# Altium integrated library Maxim Supervisors, Voltage Monitors and Sequencers.IntLib: 631 symbols (part 6 of 13)
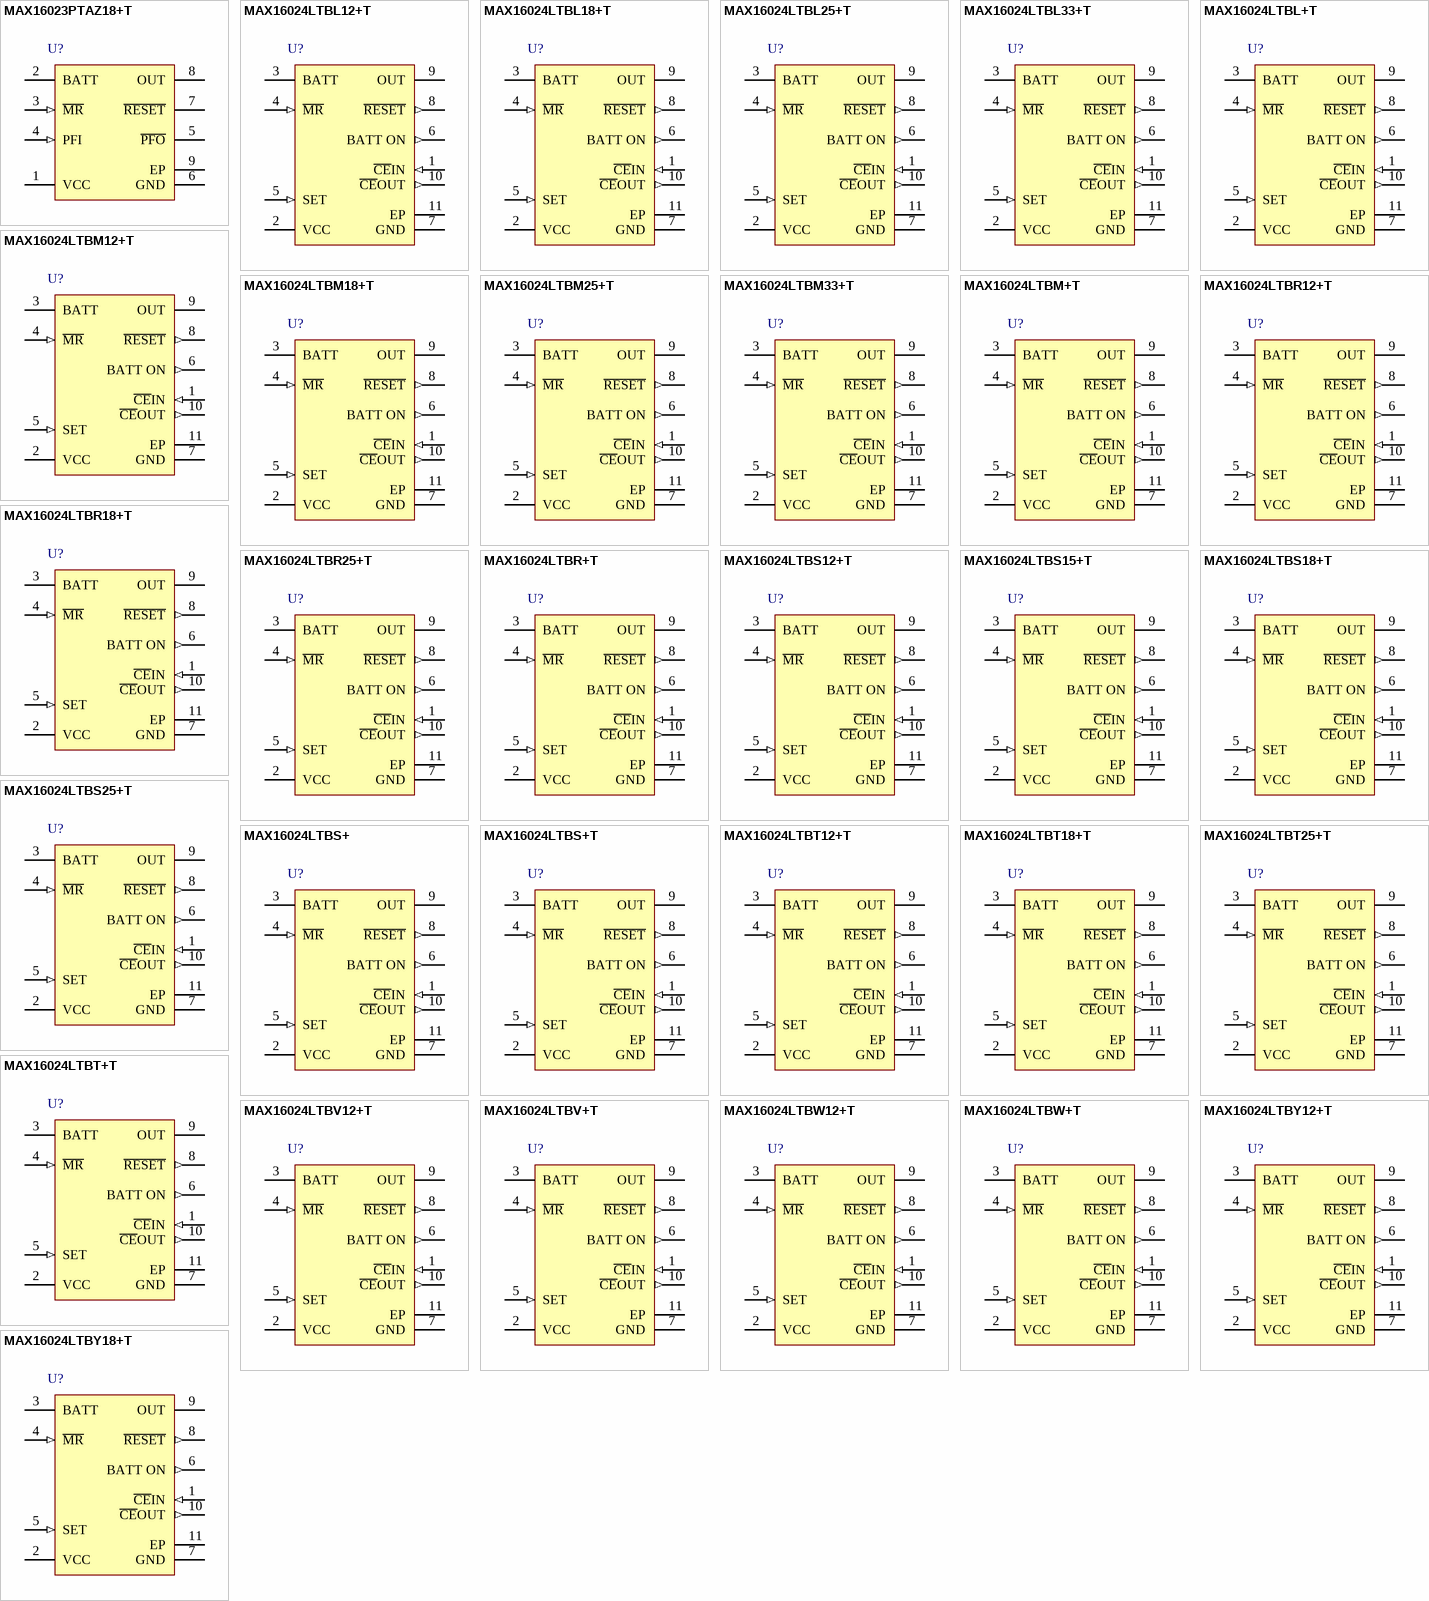
[diagram p22: symbols MAX16023PTAZ18+T to MAX16024LTBY18+T]

## MAX16024LTBS+
designator U?
Battery-Backup Circuit with Regulated Output Voltage, 1.2V; 1.8V, 2.5V, 3.0V, 3.3V output, 10-Pin TDFN-EP, -40°C to +85°C, Pb-Free; DatasheetVersion: Rev 0, Aug-2008; PackageVersion: revJ, 2009; PackageReference: T1033+1; PackageDescription: 10-Pin Plastic Very Very Thin Dual Flatpack No Leads, Exposed Pad, 3 x 3 x 0.8 mm Body, TDFN-EP, Pb-Free; Code_JEDEC: MO-229-WEED-3; ComponentLink1Description: Manufacturer URL; ComponentLink1URL: http://www.maxim-ic.com; ComponentLink2Description: Datasheet; ComponentLink2URL: http://datasheets.maxim-ic.com/en/ds/MAX16023-MAX16024.pdf; ComponentLink3Description: Package Specification; ComponentLink3URL: http://pdfserv.maxim-ic.com/package_dwgs/21-0137.PDF
footprint T1033+1_V (SON, 10-Leads, Body 3x3mm, Pitch 0.5mm, Thermal Pad 2.35x1.58mm, Maxim Recommended)
pins: 1 ~{CE}IN (in), 2 VCC (power), 3 BATT (power), 4 ~{MR} (in), 5 SET (in), 6 BATT ON (out), 7 GND (power), 8 ~{RESET} (out), 9 OUT (power), 10 ~{CE}OUT (out), 11 EP (power)

## MAX16024LTBS+T
designator U?
Battery-Backup Circuit with Regulated Output Voltage, 1.2V; 1.8V, 2.5V, 3.0V, 3.3V output, 10-Pin TDFN-EP, -40°C to +85°C, Pb-Free, Tape and Reel; DatasheetVersion: Rev 0, Aug-2008; PackageVersion: revJ, 2009; PackageReference: T1033+1; PackageDescription: 10-Pin Plastic Very Very Thin Dual Flatpack No Leads, Exposed Pad, 3 x 3 x 0.8 mm Body, TDFN-EP, Pb-Free; Code_JEDEC: MO-229-WEED-3; ComponentLink1Description: Manufacturer URL; ComponentLink1URL: http://www.maxim-ic.com; ComponentLink2Description: Datasheet; ComponentLink2URL: http://datasheets.maxim-ic.com/en/ds/MAX16023-MAX16024.pdf; ComponentLink3Description: Package Specification; ComponentLink3URL: http://pdfserv.maxim-ic.com/package_dwgs/21-0137.PDF
footprint T1033+1_V (SON, 10-Leads, Body 3x3mm, Pitch 0.5mm, Thermal Pad 2.35x1.58mm, Maxim Recommended)
pins: 1 ~{CE}IN (in), 2 VCC (power), 3 BATT (power), 4 ~{MR} (in), 5 SET (in), 6 BATT ON (out), 7 GND (power), 8 ~{RESET} (out), 9 OUT (power), 10 ~{CE}OUT (out), 11 EP (power)

## MAX16024LTBT12+T
designator U?
Battery-Backup Circuit with Regulated Output Voltage, 1.2V; 1.8V, 2.5V, 3.0V, 3.3V output, 10-Pin TDFN-EP, -40°C to +85°C, Pb-Free, Tape and Reel; DatasheetVersion: Rev 0, Aug-2008; PackageVersion: revJ, 2009; PackageReference: T1033+1; PackageDescription: 10-Pin Plastic Very Very Thin Dual Flatpack No Leads, Exposed Pad, 3 x 3 x 0.8 mm Body, TDFN-EP, Pb-Free; Code_JEDEC: MO-229-WEED-3; ComponentLink1Description: Manufacturer URL; ComponentLink1URL: http://www.maxim-ic.com; ComponentLink2Description: Datasheet; ComponentLink2URL: http://datasheets.maxim-ic.com/en/ds/MAX16023-MAX16024.pdf; ComponentLink3Description: Package Specification; ComponentLink3URL: http://pdfserv.maxim-ic.com/package_dwgs/21-0137.PDF
footprint T1033+1_V (SON, 10-Leads, Body 3x3mm, Pitch 0.5mm, Thermal Pad 2.35x1.58mm, Maxim Recommended)
pins: 1 ~{CE}IN (in), 2 VCC (power), 3 BATT (power), 4 ~{MR} (in), 5 SET (in), 6 BATT ON (out), 7 GND (power), 8 ~{RESET} (out), 9 OUT (power), 10 ~{CE}OUT (out), 11 EP (power)

## MAX16024LTBT18+T
designator U?
Battery-Backup Circuit with Regulated Output Voltage, 1.2V; 1.8V, 2.5V, 3.0V, 3.3V output, 10-Pin TDFN-EP, -40°C to +85°C, Pb-Free, Tape and Reel; DatasheetVersion: Rev 0, Aug-2008; PackageVersion: revJ, 2009; PackageReference: T1033+1; PackageDescription: 10-Pin Plastic Very Very Thin Dual Flatpack No Leads, Exposed Pad, 3 x 3 x 0.8 mm Body, TDFN-EP, Pb-Free; Code_JEDEC: MO-229-WEED-3; ComponentLink1Description: Manufacturer URL; ComponentLink1URL: http://www.maxim-ic.com; ComponentLink2Description: Datasheet; ComponentLink2URL: http://datasheets.maxim-ic.com/en/ds/MAX16023-MAX16024.pdf; ComponentLink3Description: Package Specification; ComponentLink3URL: http://pdfserv.maxim-ic.com/package_dwgs/21-0137.PDF
footprint T1033+1_V (SON, 10-Leads, Body 3x3mm, Pitch 0.5mm, Thermal Pad 2.35x1.58mm, Maxim Recommended)
pins: 1 ~{CE}IN (in), 2 VCC (power), 3 BATT (power), 4 ~{MR} (in), 5 SET (in), 6 BATT ON (out), 7 GND (power), 8 ~{RESET} (out), 9 OUT (power), 10 ~{CE}OUT (out), 11 EP (power)

## MAX16024LTBT25+T
designator U?
Battery-Backup Circuit with Regulated Output Voltage, 1.2V; 1.8V, 2.5V, 3.0V, 3.3V output, 10-Pin TDFN-EP, -40°C to +85°C, Pb-Free, Tape and Reel; DatasheetVersion: Rev 0, Aug-2008; PackageVersion: revJ, 2009; PackageReference: T1033+1; PackageDescription: 10-Pin Plastic Very Very Thin Dual Flatpack No Leads, Exposed Pad, 3 x 3 x 0.8 mm Body, TDFN-EP, Pb-Free; Code_JEDEC: MO-229-WEED-3; ComponentLink1Description: Manufacturer URL; ComponentLink1URL: http://www.maxim-ic.com; ComponentLink2Description: Datasheet; ComponentLink2URL: http://datasheets.maxim-ic.com/en/ds/MAX16023-MAX16024.pdf; ComponentLink3Description: Package Specification; ComponentLink3URL: http://pdfserv.maxim-ic.com/package_dwgs/21-0137.PDF
footprint T1033+1_V (SON, 10-Leads, Body 3x3mm, Pitch 0.5mm, Thermal Pad 2.35x1.58mm, Maxim Recommended)
pins: 1 ~{CE}IN (in), 2 VCC (power), 3 BATT (power), 4 ~{MR} (in), 5 SET (in), 6 BATT ON (out), 7 GND (power), 8 ~{RESET} (out), 9 OUT (power), 10 ~{CE}OUT (out), 11 EP (power)

## MAX16024LTBT+T
designator U?
Battery-Backup Circuit with Regulated Output Voltage, 1.2V; 1.8V, 2.5V, 3.0V, 3.3V output, 10-Pin TDFN-EP, -40°C to +85°C, Pb-Free, Tape and Reel; DatasheetVersion: Rev 0, Aug-2008; PackageVersion: revJ, 2009; PackageReference: T1033+1; PackageDescription: 10-Pin Plastic Very Very Thin Dual Flatpack No Leads, Exposed Pad, 3 x 3 x 0.8 mm Body, TDFN-EP, Pb-Free; Code_JEDEC: MO-229-WEED-3; ComponentLink1Description: Manufacturer URL; ComponentLink1URL: http://www.maxim-ic.com; ComponentLink2Description: Datasheet; ComponentLink2URL: http://datasheets.maxim-ic.com/en/ds/MAX16023-MAX16024.pdf; ComponentLink3Description: Package Specification; ComponentLink3URL: http://pdfserv.maxim-ic.com/package_dwgs/21-0137.PDF
footprint T1033+1_V (SON, 10-Leads, Body 3x3mm, Pitch 0.5mm, Thermal Pad 2.35x1.58mm, Maxim Recommended)
pins: 1 ~{CE}IN (in), 2 VCC (power), 3 BATT (power), 4 ~{MR} (in), 5 SET (in), 6 BATT ON (out), 7 GND (power), 8 ~{RESET} (out), 9 OUT (power), 10 ~{CE}OUT (out), 11 EP (power)

## MAX16024LTBV12+T
designator U?
Battery-Backup Circuit with Regulated Output Voltage, 1.2V; 1.8V, 2.5V, 3.0V, 3.3V output, 10-Pin TDFN-EP, -40°C to +85°C, Pb-Free, Tape and Reel; DatasheetVersion: Rev 0, Aug-2008; PackageVersion: revJ, 2009; PackageReference: T1033+1; PackageDescription: 10-Pin Plastic Very Very Thin Dual Flatpack No Leads, Exposed Pad, 3 x 3 x 0.8 mm Body, TDFN-EP, Pb-Free; Code_JEDEC: MO-229-WEED-3; ComponentLink1Description: Manufacturer URL; ComponentLink1URL: http://www.maxim-ic.com; ComponentLink2Description: Datasheet; ComponentLink2URL: http://datasheets.maxim-ic.com/en/ds/MAX16023-MAX16024.pdf; ComponentLink3Description: Package Specification; ComponentLink3URL: http://pdfserv.maxim-ic.com/package_dwgs/21-0137.PDF
footprint T1033+1_V (SON, 10-Leads, Body 3x3mm, Pitch 0.5mm, Thermal Pad 2.35x1.58mm, Maxim Recommended)
pins: 1 ~{CE}IN (in), 2 VCC (power), 3 BATT (power), 4 ~{MR} (in), 5 SET (in), 6 BATT ON (out), 7 GND (power), 8 ~{RESET} (out), 9 OUT (power), 10 ~{CE}OUT (out), 11 EP (power)

## MAX16024LTBV+T
designator U?
Battery-Backup Circuit with Regulated Output Voltage, 1.2V; 1.8V, 2.5V, 3.0V, 3.3V output, 10-Pin TDFN-EP, -40°C to +85°C, Pb-Free, Tape and Reel; DatasheetVersion: Rev 0, Aug-2008; PackageVersion: revJ, 2009; PackageReference: T1033+1; PackageDescription: 10-Pin Plastic Very Very Thin Dual Flatpack No Leads, Exposed Pad, 3 x 3 x 0.8 mm Body, TDFN-EP, Pb-Free; Code_JEDEC: MO-229-WEED-3; ComponentLink1Description: Manufacturer URL; ComponentLink1URL: http://www.maxim-ic.com; ComponentLink2Description: Datasheet; ComponentLink2URL: http://datasheets.maxim-ic.com/en/ds/MAX16023-MAX16024.pdf; ComponentLink3Description: Package Specification; ComponentLink3URL: http://pdfserv.maxim-ic.com/package_dwgs/21-0137.PDF
footprint T1033+1_V (SON, 10-Leads, Body 3x3mm, Pitch 0.5mm, Thermal Pad 2.35x1.58mm, Maxim Recommended)
pins: 1 ~{CE}IN (in), 2 VCC (power), 3 BATT (power), 4 ~{MR} (in), 5 SET (in), 6 BATT ON (out), 7 GND (power), 8 ~{RESET} (out), 9 OUT (power), 10 ~{CE}OUT (out), 11 EP (power)

## MAX16024LTBW12+T
designator U?
Battery-Backup Circuit with Regulated Output Voltage, 1.2V; 1.8V, 2.5V, 3.0V, 3.3V output, 10-Pin TDFN-EP, -40°C to +85°C, Pb-Free, Tape and Reel; DatasheetVersion: Rev 0, Aug-2008; PackageVersion: revJ, 2009; PackageReference: T1033+1; PackageDescription: 10-Pin Plastic Very Very Thin Dual Flatpack No Leads, Exposed Pad, 3 x 3 x 0.8 mm Body, TDFN-EP, Pb-Free; Code_JEDEC: MO-229-WEED-3; ComponentLink1Description: Manufacturer URL; ComponentLink1URL: http://www.maxim-ic.com; ComponentLink2Description: Datasheet; ComponentLink2URL: http://datasheets.maxim-ic.com/en/ds/MAX16023-MAX16024.pdf; ComponentLink3Description: Package Specification; ComponentLink3URL: http://pdfserv.maxim-ic.com/package_dwgs/21-0137.PDF
footprint T1033+1_V (SON, 10-Leads, Body 3x3mm, Pitch 0.5mm, Thermal Pad 2.35x1.58mm, Maxim Recommended)
pins: 1 ~{CE}IN (in), 2 VCC (power), 3 BATT (power), 4 ~{MR} (in), 5 SET (in), 6 BATT ON (out), 7 GND (power), 8 ~{RESET} (out), 9 OUT (power), 10 ~{CE}OUT (out), 11 EP (power)

## MAX16024LTBW+T
designator U?
Battery-Backup Circuit with Regulated Output Voltage, 1.2V; 1.8V, 2.5V, 3.0V, 3.3V output, 10-Pin TDFN-EP, -40°C to +85°C, Pb-Free, Tape and Reel; DatasheetVersion: Rev 0, Aug-2008; PackageVersion: revJ, 2009; PackageReference: T1033+1; PackageDescription: 10-Pin Plastic Very Very Thin Dual Flatpack No Leads, Exposed Pad, 3 x 3 x 0.8 mm Body, TDFN-EP, Pb-Free; Code_JEDEC: MO-229-WEED-3; ComponentLink1Description: Manufacturer URL; ComponentLink1URL: http://www.maxim-ic.com; ComponentLink2Description: Datasheet; ComponentLink2URL: http://datasheets.maxim-ic.com/en/ds/MAX16023-MAX16024.pdf; ComponentLink3Description: Package Specification; ComponentLink3URL: http://pdfserv.maxim-ic.com/package_dwgs/21-0137.PDF
footprint T1033+1_V (SON, 10-Leads, Body 3x3mm, Pitch 0.5mm, Thermal Pad 2.35x1.58mm, Maxim Recommended)
pins: 1 ~{CE}IN (in), 2 VCC (power), 3 BATT (power), 4 ~{MR} (in), 5 SET (in), 6 BATT ON (out), 7 GND (power), 8 ~{RESET} (out), 9 OUT (power), 10 ~{CE}OUT (out), 11 EP (power)

## MAX16024LTBY12+T
designator U?
Battery-Backup Circuit with Regulated Output Voltage, 1.2V; 1.8V, 2.5V, 3.0V, 3.3V output, 10-Pin TDFN-EP, -40°C to +85°C, Pb-Free, Tape and Reel; DatasheetVersion: Rev 0, Aug-2008; PackageVersion: revJ, 2009; PackageReference: T1033+1; PackageDescription: 10-Pin Plastic Very Very Thin Dual Flatpack No Leads, Exposed Pad, 3 x 3 x 0.8 mm Body, TDFN-EP, Pb-Free; Code_JEDEC: MO-229-WEED-3; ComponentLink1Description: Manufacturer URL; ComponentLink1URL: http://www.maxim-ic.com; ComponentLink2Description: Datasheet; ComponentLink2URL: http://datasheets.maxim-ic.com/en/ds/MAX16023-MAX16024.pdf; ComponentLink3Description: Package Specification; ComponentLink3URL: http://pdfserv.maxim-ic.com/package_dwgs/21-0137.PDF
footprint T1033+1_V (SON, 10-Leads, Body 3x3mm, Pitch 0.5mm, Thermal Pad 2.35x1.58mm, Maxim Recommended)
pins: 1 ~{CE}IN (in), 2 VCC (power), 3 BATT (power), 4 ~{MR} (in), 5 SET (in), 6 BATT ON (out), 7 GND (power), 8 ~{RESET} (out), 9 OUT (power), 10 ~{CE}OUT (out), 11 EP (power)

## MAX16024LTBY18+T
designator U?
Battery-Backup Circuit with Regulated Output Voltage, 1.2V; 1.8V, 2.5V, 3.0V, 3.3V output, 10-Pin TDFN-EP, -40°C to +85°C, Pb-Free, Tape and Reel; DatasheetVersion: Rev 0, Aug-2008; PackageVersion: revJ, 2009; PackageReference: T1033+1; PackageDescription: 10-Pin Plastic Very Very Thin Dual Flatpack No Leads, Exposed Pad, 3 x 3 x 0.8 mm Body, TDFN-EP, Pb-Free; Code_JEDEC: MO-229-WEED-3; ComponentLink1Description: Manufacturer URL; ComponentLink1URL: http://www.maxim-ic.com; ComponentLink2Description: Datasheet; ComponentLink2URL: http://datasheets.maxim-ic.com/en/ds/MAX16023-MAX16024.pdf; ComponentLink3Description: Package Specification; ComponentLink3URL: http://pdfserv.maxim-ic.com/package_dwgs/21-0137.PDF
footprint T1033+1_V (SON, 10-Leads, Body 3x3mm, Pitch 0.5mm, Thermal Pad 2.35x1.58mm, Maxim Recommended)
pins: 1 ~{CE}IN (in), 2 VCC (power), 3 BATT (power), 4 ~{MR} (in), 5 SET (in), 6 BATT ON (out), 7 GND (power), 8 ~{RESET} (out), 9 OUT (power), 10 ~{CE}OUT (out), 11 EP (power)

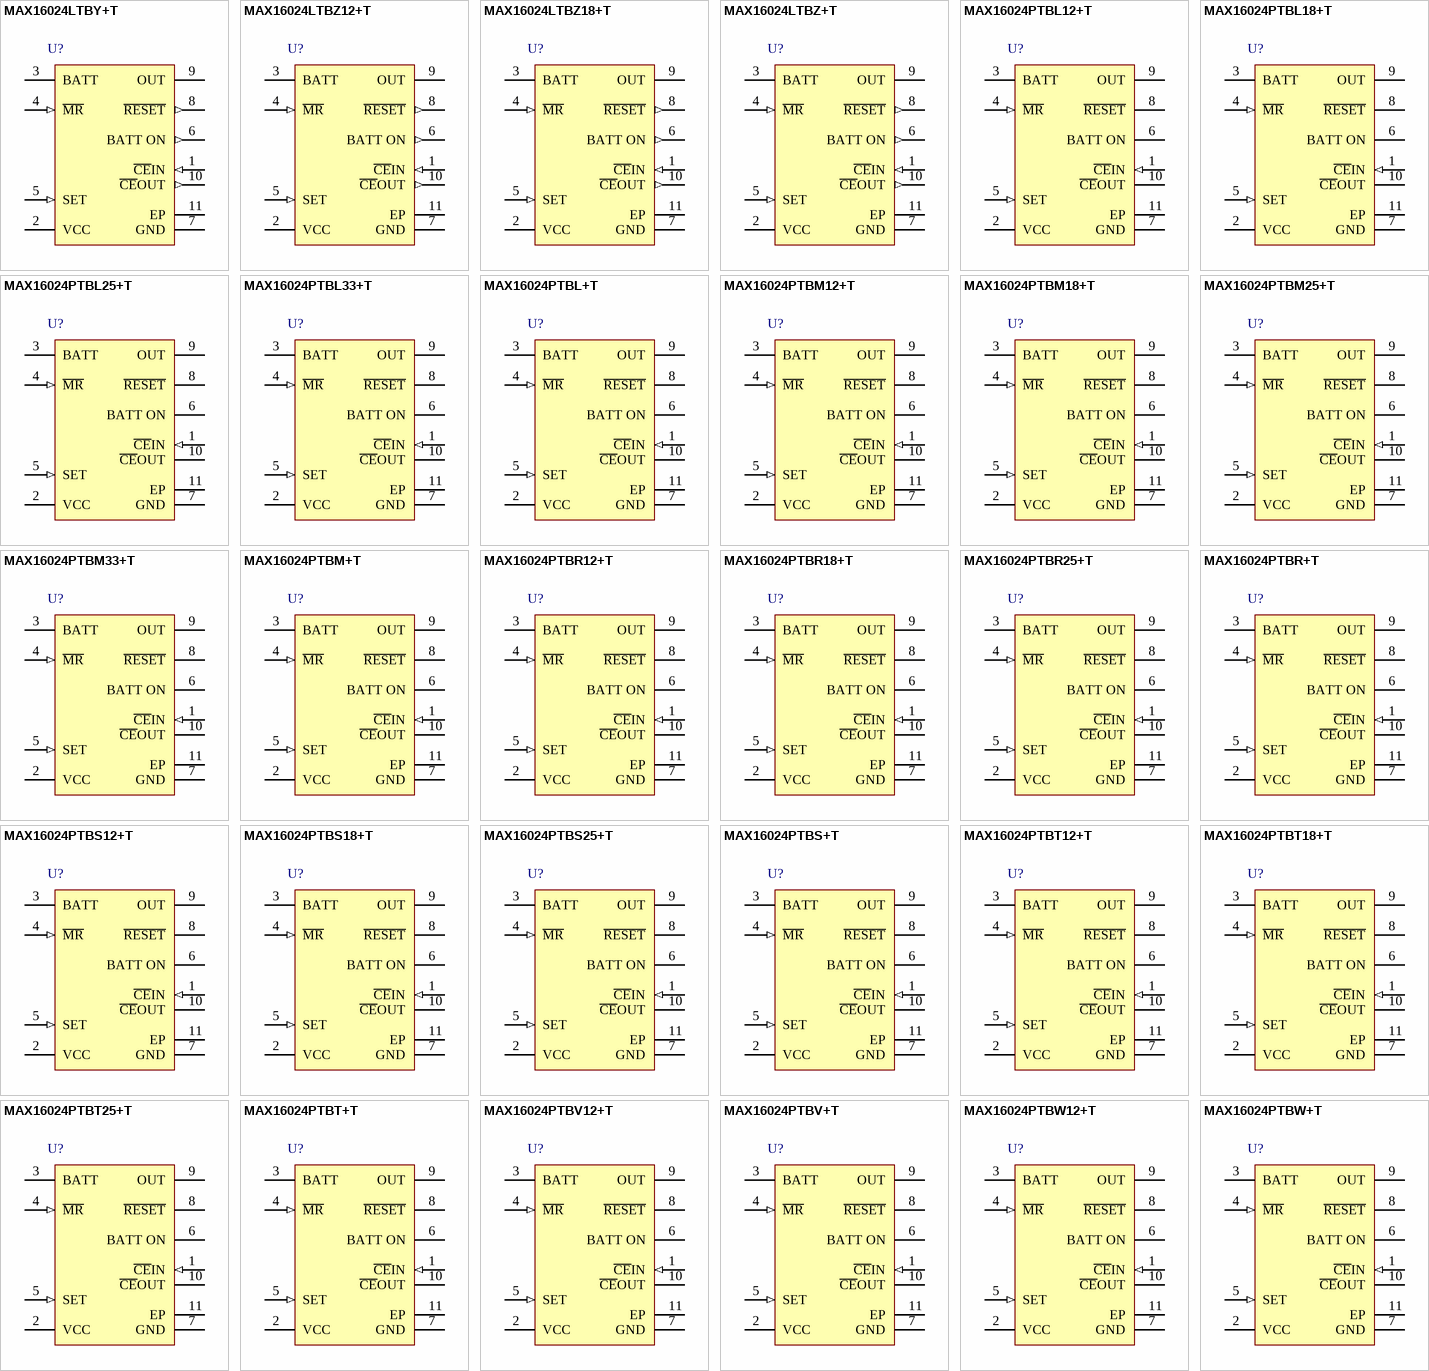
[diagram p7: symbols MAX16024LTBY+T to MAX16024PTBW+T]

## MAX16024LTBY+T
designator U?
Battery-Backup Circuit with Regulated Output Voltage, 1.2V; 1.8V, 2.5V, 3.0V, 3.3V output, 10-Pin TDFN-EP, -40°C to +85°C, Pb-Free, Tape and Reel; DatasheetVersion: Rev 0, Aug-2008; PackageVersion: revJ, 2009; PackageReference: T1033+1; PackageDescription: 10-Pin Plastic Very Very Thin Dual Flatpack No Leads, Exposed Pad, 3 x 3 x 0.8 mm Body, TDFN-EP, Pb-Free; Code_JEDEC: MO-229-WEED-3; ComponentLink1Description: Manufacturer URL; ComponentLink1URL: http://www.maxim-ic.com; ComponentLink2Description: Datasheet; ComponentLink2URL: http://datasheets.maxim-ic.com/en/ds/MAX16023-MAX16024.pdf; ComponentLink3Description: Package Specification; ComponentLink3URL: http://pdfserv.maxim-ic.com/package_dwgs/21-0137.PDF
footprint T1033+1_V (SON, 10-Leads, Body 3x3mm, Pitch 0.5mm, Thermal Pad 2.35x1.58mm, Maxim Recommended)
pins: 1 ~{CE}IN (in), 2 VCC (power), 3 BATT (power), 4 ~{MR} (in), 5 SET (in), 6 BATT ON (out), 7 GND (power), 8 ~{RESET} (out), 9 OUT (power), 10 ~{CE}OUT (out), 11 EP (power)

## MAX16024LTBZ12+T
designator U?
Battery-Backup Circuit with Regulated Output Voltage, 1.2V; 1.8V, 2.5V, 3.0V, 3.3V output, 10-Pin TDFN-EP, -40°C to +85°C, Pb-Free, Tape and Reel; DatasheetVersion: Rev 0, Aug-2008; PackageVersion: revJ, 2009; PackageReference: T1033+1; PackageDescription: 10-Pin Plastic Very Very Thin Dual Flatpack No Leads, Exposed Pad, 3 x 3 x 0.8 mm Body, TDFN-EP, Pb-Free; Code_JEDEC: MO-229-WEED-3; ComponentLink1Description: Manufacturer URL; ComponentLink1URL: http://www.maxim-ic.com; ComponentLink2Description: Datasheet; ComponentLink2URL: http://datasheets.maxim-ic.com/en/ds/MAX16023-MAX16024.pdf; ComponentLink3Description: Package Specification; ComponentLink3URL: http://pdfserv.maxim-ic.com/package_dwgs/21-0137.PDF
footprint T1033+1_V (SON, 10-Leads, Body 3x3mm, Pitch 0.5mm, Thermal Pad 2.35x1.58mm, Maxim Recommended)
pins: 1 ~{CE}IN (in), 2 VCC (power), 3 BATT (power), 4 ~{MR} (in), 5 SET (in), 6 BATT ON (out), 7 GND (power), 8 ~{RESET} (out), 9 OUT (power), 10 ~{CE}OUT (out), 11 EP (power)

## MAX16024LTBZ18+T
designator U?
Battery-Backup Circuit with Regulated Output Voltage, 1.2V; 1.8V, 2.5V, 3.0V, 3.3V output, 10-Pin TDFN-EP, -40°C to +85°C, Pb-Free, Tape and Reel; DatasheetVersion: Rev 0, Aug-2008; PackageVersion: revJ, 2009; PackageReference: T1033+1; PackageDescription: 10-Pin Plastic Very Very Thin Dual Flatpack No Leads, Exposed Pad, 3 x 3 x 0.8 mm Body, TDFN-EP, Pb-Free; Code_JEDEC: MO-229-WEED-3; ComponentLink1Description: Manufacturer URL; ComponentLink1URL: http://www.maxim-ic.com; ComponentLink2Description: Datasheet; ComponentLink2URL: http://datasheets.maxim-ic.com/en/ds/MAX16023-MAX16024.pdf; ComponentLink3Description: Package Specification; ComponentLink3URL: http://pdfserv.maxim-ic.com/package_dwgs/21-0137.PDF
footprint T1033+1_V (SON, 10-Leads, Body 3x3mm, Pitch 0.5mm, Thermal Pad 2.35x1.58mm, Maxim Recommended)
pins: 1 ~{CE}IN (in), 2 VCC (power), 3 BATT (power), 4 ~{MR} (in), 5 SET (in), 6 BATT ON (out), 7 GND (power), 8 ~{RESET} (out), 9 OUT (power), 10 ~{CE}OUT (out), 11 EP (power)

## MAX16024LTBZ+T
designator U?
Battery-Backup Circuit with Regulated Output Voltage, 1.2V; 1.8V, 2.5V, 3.0V, 3.3V output, 10-Pin TDFN-EP, -40°C to +85°C, Pb-Free, Tape and Reel; DatasheetVersion: Rev 0, Aug-2008; PackageVersion: revJ, 2009; PackageReference: T1033+1; PackageDescription: 10-Pin Plastic Very Very Thin Dual Flatpack No Leads, Exposed Pad, 3 x 3 x 0.8 mm Body, TDFN-EP, Pb-Free; Code_JEDEC: MO-229-WEED-3; ComponentLink1Description: Manufacturer URL; ComponentLink1URL: http://www.maxim-ic.com; ComponentLink2Description: Datasheet; ComponentLink2URL: http://datasheets.maxim-ic.com/en/ds/MAX16023-MAX16024.pdf; ComponentLink3Description: Package Specification; ComponentLink3URL: http://pdfserv.maxim-ic.com/package_dwgs/21-0137.PDF
footprint T1033+1_V (SON, 10-Leads, Body 3x3mm, Pitch 0.5mm, Thermal Pad 2.35x1.58mm, Maxim Recommended)
pins: 1 ~{CE}IN (in), 2 VCC (power), 3 BATT (power), 4 ~{MR} (in), 5 SET (in), 6 BATT ON (out), 7 GND (power), 8 ~{RESET} (out), 9 OUT (power), 10 ~{CE}OUT (out), 11 EP (power)

## MAX16024PTBL12+T
designator U?
Battery-Backup Circuit with Regulated Output Voltage, Open Drain output, 1.2V; 1.8V, 2.5V, 3.0V, 3.3V output, 10-Pin TDFN-EP, -40°C to +85°C, Pb-Free, Tape and Reel; DatasheetVersion: Rev 0, Aug-2008; PackageVersion: revJ, 2009; PackageReference: T1033+1; PackageDescription: 10-Pin Plastic Very Very Thin Dual Flatpack No Leads, Exposed Pad, 3 x 3 x 0.8 mm Body, TDFN-EP, Pb-Free; Code_JEDEC: MO-229-WEED-3; ComponentLink1Description: Manufacturer URL; ComponentLink1URL: http://www.maxim-ic.com; ComponentLink2Description: Datasheet; ComponentLink2URL: http://datasheets.maxim-ic.com/en/ds/MAX16023-MAX16024.pdf; ComponentLink3Description: Package Specification; ComponentLink3URL: http://pdfserv.maxim-ic.com/package_dwgs/21-0137.PDF
footprint T1033+1_V (SON, 10-Leads, Body 3x3mm, Pitch 0.5mm, Thermal Pad 2.35x1.58mm, Maxim Recommended)
pins: 1 ~{CE}IN (in), 2 VCC (power), 3 BATT (power), 4 ~{MR} (in), 5 SET (in), 6 BATT ON (oc), 7 GND (power), 8 ~{RESET} (oc), 9 OUT (power), 10 ~{CE}OUT (oc), 11 EP (power)

## MAX16024PTBL18+T
designator U?
Battery-Backup Circuit with Regulated Output Voltage, Open Drain output, 1.2V; 1.8V, 2.5V, 3.0V, 3.3V output, 10-Pin TDFN-EP, -40°C to +85°C, Pb-Free, Tape and Reel; DatasheetVersion: Rev 0, Aug-2008; PackageVersion: revJ, 2009; PackageReference: T1033+1; PackageDescription: 10-Pin Plastic Very Very Thin Dual Flatpack No Leads, Exposed Pad, 3 x 3 x 0.8 mm Body, TDFN-EP, Pb-Free; Code_JEDEC: MO-229-WEED-3; ComponentLink1Description: Manufacturer URL; ComponentLink1URL: http://www.maxim-ic.com; ComponentLink2Description: Datasheet; ComponentLink2URL: http://datasheets.maxim-ic.com/en/ds/MAX16023-MAX16024.pdf; ComponentLink3Description: Package Specification; ComponentLink3URL: http://pdfserv.maxim-ic.com/package_dwgs/21-0137.PDF
footprint T1033+1_V (SON, 10-Leads, Body 3x3mm, Pitch 0.5mm, Thermal Pad 2.35x1.58mm, Maxim Recommended)
pins: 1 ~{CE}IN (in), 2 VCC (power), 3 BATT (power), 4 ~{MR} (in), 5 SET (in), 6 BATT ON (oc), 7 GND (power), 8 ~{RESET} (oc), 9 OUT (power), 10 ~{CE}OUT (oc), 11 EP (power)

## MAX16024PTBL25+T
designator U?
Battery-Backup Circuit with Regulated Output Voltage, Open Drain output, 1.2V; 1.8V, 2.5V, 3.0V, 3.3V output, 10-Pin TDFN-EP, -40°C to +85°C, Pb-Free, Tape and Reel; DatasheetVersion: Rev 0, Aug-2008; PackageVersion: revJ, 2009; PackageReference: T1033+1; PackageDescription: 10-Pin Plastic Very Very Thin Dual Flatpack No Leads, Exposed Pad, 3 x 3 x 0.8 mm Body, TDFN-EP, Pb-Free; Code_JEDEC: MO-229-WEED-3; ComponentLink1Description: Manufacturer URL; ComponentLink1URL: http://www.maxim-ic.com; ComponentLink2Description: Datasheet; ComponentLink2URL: http://datasheets.maxim-ic.com/en/ds/MAX16023-MAX16024.pdf; ComponentLink3Description: Package Specification; ComponentLink3URL: http://pdfserv.maxim-ic.com/package_dwgs/21-0137.PDF
footprint T1033+1_V (SON, 10-Leads, Body 3x3mm, Pitch 0.5mm, Thermal Pad 2.35x1.58mm, Maxim Recommended)
pins: 1 ~{CE}IN (in), 2 VCC (power), 3 BATT (power), 4 ~{MR} (in), 5 SET (in), 6 BATT ON (oc), 7 GND (power), 8 ~{RESET} (oc), 9 OUT (power), 10 ~{CE}OUT (oc), 11 EP (power)

## MAX16024PTBL33+T
designator U?
Battery-Backup Circuit with Regulated Output Voltage, Open Drain output, 1.2V; 1.8V, 2.5V, 3.0V, 3.3V output, 10-Pin TDFN-EP, -40°C to +85°C, Pb-Free, Tape and Reel; DatasheetVersion: Rev 0, Aug-2008; PackageVersion: revJ, 2009; PackageReference: T1033+1; PackageDescription: 10-Pin Plastic Very Very Thin Dual Flatpack No Leads, Exposed Pad, 3 x 3 x 0.8 mm Body, TDFN-EP, Pb-Free; Code_JEDEC: MO-229-WEED-3; ComponentLink1Description: Manufacturer URL; ComponentLink1URL: http://www.maxim-ic.com; ComponentLink2Description: Datasheet; ComponentLink2URL: http://datasheets.maxim-ic.com/en/ds/MAX16023-MAX16024.pdf; ComponentLink3Description: Package Specification; ComponentLink3URL: http://pdfserv.maxim-ic.com/package_dwgs/21-0137.PDF
footprint T1033+1_V (SON, 10-Leads, Body 3x3mm, Pitch 0.5mm, Thermal Pad 2.35x1.58mm, Maxim Recommended)
pins: 1 ~{CE}IN (in), 2 VCC (power), 3 BATT (power), 4 ~{MR} (in), 5 SET (in), 6 BATT ON (oc), 7 GND (power), 8 ~{RESET} (oc), 9 OUT (power), 10 ~{CE}OUT (oc), 11 EP (power)

## MAX16024PTBL+T
designator U?
Battery-Backup Circuit with Regulated Output Voltage, Open Drain output, 1.2V; 1.8V, 2.5V, 3.0V, 3.3V output, 10-Pin TDFN-EP, -40°C to +85°C, Pb-Free, Tape and Reel; DatasheetVersion: Rev 0, Aug-2008; PackageVersion: revJ, 2009; PackageReference: T1033+1; PackageDescription: 10-Pin Plastic Very Very Thin Dual Flatpack No Leads, Exposed Pad, 3 x 3 x 0.8 mm Body, TDFN-EP, Pb-Free; Code_JEDEC: MO-229-WEED-3; ComponentLink1Description: Manufacturer URL; ComponentLink1URL: http://www.maxim-ic.com; ComponentLink2Description: Datasheet; ComponentLink2URL: http://datasheets.maxim-ic.com/en/ds/MAX16023-MAX16024.pdf; ComponentLink3Description: Package Specification; ComponentLink3URL: http://pdfserv.maxim-ic.com/package_dwgs/21-0137.PDF
footprint T1033+1_V (SON, 10-Leads, Body 3x3mm, Pitch 0.5mm, Thermal Pad 2.35x1.58mm, Maxim Recommended)
pins: 1 ~{CE}IN (in), 2 VCC (power), 3 BATT (power), 4 ~{MR} (in), 5 SET (in), 6 BATT ON (oc), 7 GND (power), 8 ~{RESET} (oc), 9 OUT (power), 10 ~{CE}OUT (oc), 11 EP (power)

## MAX16024PTBM12+T
designator U?
Battery-Backup Circuit with Regulated Output Voltage, Open Drain output, 1.2V; 1.8V, 2.5V, 3.0V, 3.3V output, 10-Pin TDFN-EP, -40°C to +85°C, Pb-Free, Tape and Reel; DatasheetVersion: Rev 0, Aug-2008; PackageVersion: revJ, 2009; PackageReference: T1033+1; PackageDescription: 10-Pin Plastic Very Very Thin Dual Flatpack No Leads, Exposed Pad, 3 x 3 x 0.8 mm Body, TDFN-EP, Pb-Free; Code_JEDEC: MO-229-WEED-3; ComponentLink1Description: Manufacturer URL; ComponentLink1URL: http://www.maxim-ic.com; ComponentLink2Description: Datasheet; ComponentLink2URL: http://datasheets.maxim-ic.com/en/ds/MAX16023-MAX16024.pdf; ComponentLink3Description: Package Specification; ComponentLink3URL: http://pdfserv.maxim-ic.com/package_dwgs/21-0137.PDF
footprint T1033+1_V (SON, 10-Leads, Body 3x3mm, Pitch 0.5mm, Thermal Pad 2.35x1.58mm, Maxim Recommended)
pins: 1 ~{CE}IN (in), 2 VCC (power), 3 BATT (power), 4 ~{MR} (in), 5 SET (in), 6 BATT ON (oc), 7 GND (power), 8 ~{RESET} (oc), 9 OUT (power), 10 ~{CE}OUT (oc), 11 EP (power)

## MAX16024PTBM18+T
designator U?
Battery-Backup Circuit with Regulated Output Voltage, Open Drain output, 1.2V; 1.8V, 2.5V, 3.0V, 3.3V output, 10-Pin TDFN-EP, -40°C to +85°C, Pb-Free, Tape and Reel; DatasheetVersion: Rev 0, Aug-2008; PackageVersion: revJ, 2009; PackageReference: T1033+1; PackageDescription: 10-Pin Plastic Very Very Thin Dual Flatpack No Leads, Exposed Pad, 3 x 3 x 0.8 mm Body, TDFN-EP, Pb-Free; Code_JEDEC: MO-229-WEED-3; ComponentLink1Description: Manufacturer URL; ComponentLink1URL: http://www.maxim-ic.com; ComponentLink2Description: Datasheet; ComponentLink2URL: http://datasheets.maxim-ic.com/en/ds/MAX16023-MAX16024.pdf; ComponentLink3Description: Package Specification; ComponentLink3URL: http://pdfserv.maxim-ic.com/package_dwgs/21-0137.PDF
footprint T1033+1_V (SON, 10-Leads, Body 3x3mm, Pitch 0.5mm, Thermal Pad 2.35x1.58mm, Maxim Recommended)
pins: 1 ~{CE}IN (in), 2 VCC (power), 3 BATT (power), 4 ~{MR} (in), 5 SET (in), 6 BATT ON (oc), 7 GND (power), 8 ~{RESET} (oc), 9 OUT (power), 10 ~{CE}OUT (oc), 11 EP (power)

## MAX16024PTBM25+T
designator U?
Battery-Backup Circuit with Regulated Output Voltage, Open Drain output, 1.2V; 1.8V, 2.5V, 3.0V, 3.3V output, 10-Pin TDFN-EP, -40°C to +85°C, Pb-Free, Tape and Reel; DatasheetVersion: Rev 0, Aug-2008; PackageVersion: revJ, 2009; PackageReference: T1033+1; PackageDescription: 10-Pin Plastic Very Very Thin Dual Flatpack No Leads, Exposed Pad, 3 x 3 x 0.8 mm Body, TDFN-EP, Pb-Free; Code_JEDEC: MO-229-WEED-3; ComponentLink1Description: Manufacturer URL; ComponentLink1URL: http://www.maxim-ic.com; ComponentLink2Description: Datasheet; ComponentLink2URL: http://datasheets.maxim-ic.com/en/ds/MAX16023-MAX16024.pdf; ComponentLink3Description: Package Specification; ComponentLink3URL: http://pdfserv.maxim-ic.com/package_dwgs/21-0137.PDF
footprint T1033+1_V (SON, 10-Leads, Body 3x3mm, Pitch 0.5mm, Thermal Pad 2.35x1.58mm, Maxim Recommended)
pins: 1 ~{CE}IN (in), 2 VCC (power), 3 BATT (power), 4 ~{MR} (in), 5 SET (in), 6 BATT ON (oc), 7 GND (power), 8 ~{RESET} (oc), 9 OUT (power), 10 ~{CE}OUT (oc), 11 EP (power)

## MAX16024PTBM33+T
designator U?
Battery-Backup Circuit with Regulated Output Voltage, Open Drain output, 1.2V; 1.8V, 2.5V, 3.0V, 3.3V output, 10-Pin TDFN-EP, -40°C to +85°C, Pb-Free, Tape and Reel; DatasheetVersion: Rev 0, Aug-2008; PackageVersion: revJ, 2009; PackageReference: T1033+1; PackageDescription: 10-Pin Plastic Very Very Thin Dual Flatpack No Leads, Exposed Pad, 3 x 3 x 0.8 mm Body, TDFN-EP, Pb-Free; Code_JEDEC: MO-229-WEED-3; ComponentLink1Description: Manufacturer URL; ComponentLink1URL: http://www.maxim-ic.com; ComponentLink2Description: Datasheet; ComponentLink2URL: http://datasheets.maxim-ic.com/en/ds/MAX16023-MAX16024.pdf; ComponentLink3Description: Package Specification; ComponentLink3URL: http://pdfserv.maxim-ic.com/package_dwgs/21-0137.PDF
footprint T1033+1_V (SON, 10-Leads, Body 3x3mm, Pitch 0.5mm, Thermal Pad 2.35x1.58mm, Maxim Recommended)
pins: 1 ~{CE}IN (in), 2 VCC (power), 3 BATT (power), 4 ~{MR} (in), 5 SET (in), 6 BATT ON (oc), 7 GND (power), 8 ~{RESET} (oc), 9 OUT (power), 10 ~{CE}OUT (oc), 11 EP (power)

## MAX16024PTBM+T
designator U?
Battery-Backup Circuit with Regulated Output Voltage, Open Drain output, 1.2V; 1.8V, 2.5V, 3.0V, 3.3V output, 10-Pin TDFN-EP, -40°C to +85°C, Pb-Free, Tape and Reel; DatasheetVersion: Rev 0, Aug-2008; PackageVersion: revJ, 2009; PackageReference: T1033+1; PackageDescription: 10-Pin Plastic Very Very Thin Dual Flatpack No Leads, Exposed Pad, 3 x 3 x 0.8 mm Body, TDFN-EP, Pb-Free; Code_JEDEC: MO-229-WEED-3; ComponentLink1Description: Manufacturer URL; ComponentLink1URL: http://www.maxim-ic.com; ComponentLink2Description: Datasheet; ComponentLink2URL: http://datasheets.maxim-ic.com/en/ds/MAX16023-MAX16024.pdf; ComponentLink3Description: Package Specification; ComponentLink3URL: http://pdfserv.maxim-ic.com/package_dwgs/21-0137.PDF
footprint T1033+1_V (SON, 10-Leads, Body 3x3mm, Pitch 0.5mm, Thermal Pad 2.35x1.58mm, Maxim Recommended)
pins: 1 ~{CE}IN (in), 2 VCC (power), 3 BATT (power), 4 ~{MR} (in), 5 SET (in), 6 BATT ON (oc), 7 GND (power), 8 ~{RESET} (oc), 9 OUT (power), 10 ~{CE}OUT (oc), 11 EP (power)

## MAX16024PTBR12+T
designator U?
Battery-Backup Circuit with Regulated Output Voltage, Open Drain output, 1.2V; 1.8V, 2.5V, 3.0V, 3.3V output, 10-Pin TDFN-EP, -40°C to +85°C, Pb-Free, Tape and Reel; DatasheetVersion: Rev 0, Aug-2008; PackageVersion: revJ, 2009; PackageReference: T1033+1; PackageDescription: 10-Pin Plastic Very Very Thin Dual Flatpack No Leads, Exposed Pad, 3 x 3 x 0.8 mm Body, TDFN-EP, Pb-Free; Code_JEDEC: MO-229-WEED-3; ComponentLink1Description: Manufacturer URL; ComponentLink1URL: http://www.maxim-ic.com; ComponentLink2Description: Datasheet; ComponentLink2URL: http://datasheets.maxim-ic.com/en/ds/MAX16023-MAX16024.pdf; ComponentLink3Description: Package Specification; ComponentLink3URL: http://pdfserv.maxim-ic.com/package_dwgs/21-0137.PDF
footprint T1033+1_V (SON, 10-Leads, Body 3x3mm, Pitch 0.5mm, Thermal Pad 2.35x1.58mm, Maxim Recommended)
pins: 1 ~{CE}IN (in), 2 VCC (power), 3 BATT (power), 4 ~{MR} (in), 5 SET (in), 6 BATT ON (oc), 7 GND (power), 8 ~{RESET} (oc), 9 OUT (power), 10 ~{CE}OUT (oc), 11 EP (power)

## MAX16024PTBR18+T
designator U?
Battery-Backup Circuit with Regulated Output Voltage, Open Drain output, 1.2V; 1.8V, 2.5V, 3.0V, 3.3V output, 10-Pin TDFN-EP, -40°C to +85°C, Pb-Free, Tape and Reel; DatasheetVersion: Rev 0, Aug-2008; PackageVersion: revJ, 2009; PackageReference: T1033+1; PackageDescription: 10-Pin Plastic Very Very Thin Dual Flatpack No Leads, Exposed Pad, 3 x 3 x 0.8 mm Body, TDFN-EP, Pb-Free; Code_JEDEC: MO-229-WEED-3; ComponentLink1Description: Manufacturer URL; ComponentLink1URL: http://www.maxim-ic.com; ComponentLink2Description: Datasheet; ComponentLink2URL: http://datasheets.maxim-ic.com/en/ds/MAX16023-MAX16024.pdf; ComponentLink3Description: Package Specification; ComponentLink3URL: http://pdfserv.maxim-ic.com/package_dwgs/21-0137.PDF
footprint T1033+1_V (SON, 10-Leads, Body 3x3mm, Pitch 0.5mm, Thermal Pad 2.35x1.58mm, Maxim Recommended)
pins: 1 ~{CE}IN (in), 2 VCC (power), 3 BATT (power), 4 ~{MR} (in), 5 SET (in), 6 BATT ON (oc), 7 GND (power), 8 ~{RESET} (oc), 9 OUT (power), 10 ~{CE}OUT (oc), 11 EP (power)

## MAX16024PTBR25+T
designator U?
Battery-Backup Circuit with Regulated Output Voltage, Open Drain output, 1.2V; 1.8V, 2.5V, 3.0V, 3.3V output, 10-Pin TDFN-EP, -40°C to +85°C, Pb-Free, Tape and Reel; DatasheetVersion: Rev 0, Aug-2008; PackageVersion: revJ, 2009; PackageReference: T1033+1; PackageDescription: 10-Pin Plastic Very Very Thin Dual Flatpack No Leads, Exposed Pad, 3 x 3 x 0.8 mm Body, TDFN-EP, Pb-Free; Code_JEDEC: MO-229-WEED-3; ComponentLink1Description: Manufacturer URL; ComponentLink1URL: http://www.maxim-ic.com; ComponentLink2Description: Datasheet; ComponentLink2URL: http://datasheets.maxim-ic.com/en/ds/MAX16023-MAX16024.pdf; ComponentLink3Description: Package Specification; ComponentLink3URL: http://pdfserv.maxim-ic.com/package_dwgs/21-0137.PDF
footprint T1033+1_V (SON, 10-Leads, Body 3x3mm, Pitch 0.5mm, Thermal Pad 2.35x1.58mm, Maxim Recommended)
pins: 1 ~{CE}IN (in), 2 VCC (power), 3 BATT (power), 4 ~{MR} (in), 5 SET (in), 6 BATT ON (oc), 7 GND (power), 8 ~{RESET} (oc), 9 OUT (power), 10 ~{CE}OUT (oc), 11 EP (power)

## MAX16024PTBR+T
designator U?
Battery-Backup Circuit with Regulated Output Voltage, Open Drain output, 1.2V; 1.8V, 2.5V, 3.0V, 3.3V output, 10-Pin TDFN-EP, -40°C to +85°C, Pb-Free, Tape and Reel; DatasheetVersion: Rev 0, Aug-2008; PackageVersion: revJ, 2009; PackageReference: T1033+1; PackageDescription: 10-Pin Plastic Very Very Thin Dual Flatpack No Leads, Exposed Pad, 3 x 3 x 0.8 mm Body, TDFN-EP, Pb-Free; Code_JEDEC: MO-229-WEED-3; ComponentLink1Description: Manufacturer URL; ComponentLink1URL: http://www.maxim-ic.com; ComponentLink2Description: Datasheet; ComponentLink2URL: http://datasheets.maxim-ic.com/en/ds/MAX16023-MAX16024.pdf; ComponentLink3Description: Package Specification; ComponentLink3URL: http://pdfserv.maxim-ic.com/package_dwgs/21-0137.PDF
footprint T1033+1_V (SON, 10-Leads, Body 3x3mm, Pitch 0.5mm, Thermal Pad 2.35x1.58mm, Maxim Recommended)
pins: 1 ~{CE}IN (in), 2 VCC (power), 3 BATT (power), 4 ~{MR} (in), 5 SET (in), 6 BATT ON (oc), 7 GND (power), 8 ~{RESET} (oc), 9 OUT (power), 10 ~{CE}OUT (oc), 11 EP (power)

## MAX16024PTBS12+T
designator U?
Battery-Backup Circuit with Regulated Output Voltage, Open Drain output, 1.2V; 1.8V, 2.5V, 3.0V, 3.3V output, 10-Pin TDFN-EP, -40°C to +85°C, Pb-Free, Tape and Reel; DatasheetVersion: Rev 0, Aug-2008; PackageVersion: revJ, 2009; PackageReference: T1033+1; PackageDescription: 10-Pin Plastic Very Very Thin Dual Flatpack No Leads, Exposed Pad, 3 x 3 x 0.8 mm Body, TDFN-EP, Pb-Free; Code_JEDEC: MO-229-WEED-3; ComponentLink1Description: Manufacturer URL; ComponentLink1URL: http://www.maxim-ic.com; ComponentLink2Description: Datasheet; ComponentLink2URL: http://datasheets.maxim-ic.com/en/ds/MAX16023-MAX16024.pdf; ComponentLink3Description: Package Specification; ComponentLink3URL: http://pdfserv.maxim-ic.com/package_dwgs/21-0137.PDF
footprint T1033+1_V (SON, 10-Leads, Body 3x3mm, Pitch 0.5mm, Thermal Pad 2.35x1.58mm, Maxim Recommended)
pins: 1 ~{CE}IN (in), 2 VCC (power), 3 BATT (power), 4 ~{MR} (in), 5 SET (in), 6 BATT ON (oc), 7 GND (power), 8 ~{RESET} (oc), 9 OUT (power), 10 ~{CE}OUT (oc), 11 EP (power)

## MAX16024PTBS18+T
designator U?
Battery-Backup Circuit with Regulated Output Voltage, Open Drain output, 1.2V; 1.8V, 2.5V, 3.0V, 3.3V output, 10-Pin TDFN-EP, -40°C to +85°C, Pb-Free, Tape and Reel; DatasheetVersion: Rev 0, Aug-2008; PackageVersion: revJ, 2009; PackageReference: T1033+1; PackageDescription: 10-Pin Plastic Very Very Thin Dual Flatpack No Leads, Exposed Pad, 3 x 3 x 0.8 mm Body, TDFN-EP, Pb-Free; Code_JEDEC: MO-229-WEED-3; ComponentLink1Description: Manufacturer URL; ComponentLink1URL: http://www.maxim-ic.com; ComponentLink2Description: Datasheet; ComponentLink2URL: http://datasheets.maxim-ic.com/en/ds/MAX16023-MAX16024.pdf; ComponentLink3Description: Package Specification; ComponentLink3URL: http://pdfserv.maxim-ic.com/package_dwgs/21-0137.PDF
footprint T1033+1_V (SON, 10-Leads, Body 3x3mm, Pitch 0.5mm, Thermal Pad 2.35x1.58mm, Maxim Recommended)
pins: 1 ~{CE}IN (in), 2 VCC (power), 3 BATT (power), 4 ~{MR} (in), 5 SET (in), 6 BATT ON (oc), 7 GND (power), 8 ~{RESET} (oc), 9 OUT (power), 10 ~{CE}OUT (oc), 11 EP (power)

## MAX16024PTBS25+T
designator U?
Battery-Backup Circuit with Regulated Output Voltage, Open Drain output, 1.2V; 1.8V, 2.5V, 3.0V, 3.3V output, 10-Pin TDFN-EP, -40°C to +85°C, Pb-Free, Tape and Reel; DatasheetVersion: Rev 0, Aug-2008; PackageVersion: revJ, 2009; PackageReference: T1033+1; PackageDescription: 10-Pin Plastic Very Very Thin Dual Flatpack No Leads, Exposed Pad, 3 x 3 x 0.8 mm Body, TDFN-EP, Pb-Free; Code_JEDEC: MO-229-WEED-3; ComponentLink1Description: Manufacturer URL; ComponentLink1URL: http://www.maxim-ic.com; ComponentLink2Description: Datasheet; ComponentLink2URL: http://datasheets.maxim-ic.com/en/ds/MAX16023-MAX16024.pdf; ComponentLink3Description: Package Specification; ComponentLink3URL: http://pdfserv.maxim-ic.com/package_dwgs/21-0137.PDF
footprint T1033+1_V (SON, 10-Leads, Body 3x3mm, Pitch 0.5mm, Thermal Pad 2.35x1.58mm, Maxim Recommended)
pins: 1 ~{CE}IN (in), 2 VCC (power), 3 BATT (power), 4 ~{MR} (in), 5 SET (in), 6 BATT ON (oc), 7 GND (power), 8 ~{RESET} (oc), 9 OUT (power), 10 ~{CE}OUT (oc), 11 EP (power)

## MAX16024PTBS+T
designator U?
Battery-Backup Circuit with Regulated Output Voltage, Open Drain output, 1.2V; 1.8V, 2.5V, 3.0V, 3.3V output, 10-Pin TDFN-EP, -40°C to +85°C, Pb-Free, Tape and Reel; DatasheetVersion: Rev 0, Aug-2008; PackageVersion: revJ, 2009; PackageReference: T1033+1; PackageDescription: 10-Pin Plastic Very Very Thin Dual Flatpack No Leads, Exposed Pad, 3 x 3 x 0.8 mm Body, TDFN-EP, Pb-Free; Code_JEDEC: MO-229-WEED-3; ComponentLink1Description: Manufacturer URL; ComponentLink1URL: http://www.maxim-ic.com; ComponentLink2Description: Datasheet; ComponentLink2URL: http://datasheets.maxim-ic.com/en/ds/MAX16023-MAX16024.pdf; ComponentLink3Description: Package Specification; ComponentLink3URL: http://pdfserv.maxim-ic.com/package_dwgs/21-0137.PDF
footprint T1033+1_V (SON, 10-Leads, Body 3x3mm, Pitch 0.5mm, Thermal Pad 2.35x1.58mm, Maxim Recommended)
pins: 1 ~{CE}IN (in), 2 VCC (power), 3 BATT (power), 4 ~{MR} (in), 5 SET (in), 6 BATT ON (oc), 7 GND (power), 8 ~{RESET} (oc), 9 OUT (power), 10 ~{CE}OUT (oc), 11 EP (power)

## MAX16024PTBT12+T
designator U?
Battery-Backup Circuit with Regulated Output Voltage, Open Drain output, 1.2V; 1.8V, 2.5V, 3.0V, 3.3V output, 10-Pin TDFN-EP, -40°C to +85°C, Pb-Free, Tape and Reel; DatasheetVersion: Rev 0, Aug-2008; PackageVersion: revJ, 2009; PackageReference: T1033+1; PackageDescription: 10-Pin Plastic Very Very Thin Dual Flatpack No Leads, Exposed Pad, 3 x 3 x 0.8 mm Body, TDFN-EP, Pb-Free; Code_JEDEC: MO-229-WEED-3; ComponentLink1Description: Manufacturer URL; ComponentLink1URL: http://www.maxim-ic.com; ComponentLink2Description: Datasheet; ComponentLink2URL: http://datasheets.maxim-ic.com/en/ds/MAX16023-MAX16024.pdf; ComponentLink3Description: Package Specification; ComponentLink3URL: http://pdfserv.maxim-ic.com/package_dwgs/21-0137.PDF
footprint T1033+1_V (SON, 10-Leads, Body 3x3mm, Pitch 0.5mm, Thermal Pad 2.35x1.58mm, Maxim Recommended)
pins: 1 ~{CE}IN (in), 2 VCC (power), 3 BATT (power), 4 ~{MR} (in), 5 SET (in), 6 BATT ON (oc), 7 GND (power), 8 ~{RESET} (oc), 9 OUT (power), 10 ~{CE}OUT (oc), 11 EP (power)

## MAX16024PTBT18+T
designator U?
Battery-Backup Circuit with Regulated Output Voltage, Open Drain output, 1.2V; 1.8V, 2.5V, 3.0V, 3.3V output, 10-Pin TDFN-EP, -40°C to +85°C, Pb-Free, Tape and Reel; DatasheetVersion: Rev 0, Aug-2008; PackageVersion: revJ, 2009; PackageReference: T1033+1; PackageDescription: 10-Pin Plastic Very Very Thin Dual Flatpack No Leads, Exposed Pad, 3 x 3 x 0.8 mm Body, TDFN-EP, Pb-Free; Code_JEDEC: MO-229-WEED-3; ComponentLink1Description: Manufacturer URL; ComponentLink1URL: http://www.maxim-ic.com; ComponentLink2Description: Datasheet; ComponentLink2URL: http://datasheets.maxim-ic.com/en/ds/MAX16023-MAX16024.pdf; ComponentLink3Description: Package Specification; ComponentLink3URL: http://pdfserv.maxim-ic.com/package_dwgs/21-0137.PDF
footprint T1033+1_V (SON, 10-Leads, Body 3x3mm, Pitch 0.5mm, Thermal Pad 2.35x1.58mm, Maxim Recommended)
pins: 1 ~{CE}IN (in), 2 VCC (power), 3 BATT (power), 4 ~{MR} (in), 5 SET (in), 6 BATT ON (oc), 7 GND (power), 8 ~{RESET} (oc), 9 OUT (power), 10 ~{CE}OUT (oc), 11 EP (power)

## MAX16024PTBT25+T
designator U?
Battery-Backup Circuit with Regulated Output Voltage, Open Drain output, 1.2V; 1.8V, 2.5V, 3.0V, 3.3V output, 10-Pin TDFN-EP, -40°C to +85°C, Pb-Free, Tape and Reel; DatasheetVersion: Rev 0, Aug-2008; PackageVersion: revJ, 2009; PackageReference: T1033+1; PackageDescription: 10-Pin Plastic Very Very Thin Dual Flatpack No Leads, Exposed Pad, 3 x 3 x 0.8 mm Body, TDFN-EP, Pb-Free; Code_JEDEC: MO-229-WEED-3; ComponentLink1Description: Manufacturer URL; ComponentLink1URL: http://www.maxim-ic.com; ComponentLink2Description: Datasheet; ComponentLink2URL: http://datasheets.maxim-ic.com/en/ds/MAX16023-MAX16024.pdf; ComponentLink3Description: Package Specification; ComponentLink3URL: http://pdfserv.maxim-ic.com/package_dwgs/21-0137.PDF
footprint T1033+1_V (SON, 10-Leads, Body 3x3mm, Pitch 0.5mm, Thermal Pad 2.35x1.58mm, Maxim Recommended)
pins: 1 ~{CE}IN (in), 2 VCC (power), 3 BATT (power), 4 ~{MR} (in), 5 SET (in), 6 BATT ON (oc), 7 GND (power), 8 ~{RESET} (oc), 9 OUT (power), 10 ~{CE}OUT (oc), 11 EP (power)

## MAX16024PTBT+T
designator U?
Battery-Backup Circuit with Regulated Output Voltage, Open Drain output, 1.2V; 1.8V, 2.5V, 3.0V, 3.3V output, 10-Pin TDFN-EP, -40°C to +85°C, Pb-Free, Tape and Reel; DatasheetVersion: Rev 0, Aug-2008; PackageVersion: revJ, 2009; PackageReference: T1033+1; PackageDescription: 10-Pin Plastic Very Very Thin Dual Flatpack No Leads, Exposed Pad, 3 x 3 x 0.8 mm Body, TDFN-EP, Pb-Free; Code_JEDEC: MO-229-WEED-3; ComponentLink1Description: Manufacturer URL; ComponentLink1URL: http://www.maxim-ic.com; ComponentLink2Description: Datasheet; ComponentLink2URL: http://datasheets.maxim-ic.com/en/ds/MAX16023-MAX16024.pdf; ComponentLink3Description: Package Specification; ComponentLink3URL: http://pdfserv.maxim-ic.com/package_dwgs/21-0137.PDF
footprint T1033+1_V (SON, 10-Leads, Body 3x3mm, Pitch 0.5mm, Thermal Pad 2.35x1.58mm, Maxim Recommended)
pins: 1 ~{CE}IN (in), 2 VCC (power), 3 BATT (power), 4 ~{MR} (in), 5 SET (in), 6 BATT ON (oc), 7 GND (power), 8 ~{RESET} (oc), 9 OUT (power), 10 ~{CE}OUT (oc), 11 EP (power)

## MAX16024PTBV12+T
designator U?
Battery-Backup Circuit with Regulated Output Voltage, Open Drain output, 1.2V; 1.8V, 2.5V, 3.0V, 3.3V output, 10-Pin TDFN-EP, -40°C to +85°C, Pb-Free, Tape and Reel; DatasheetVersion: Rev 0, Aug-2008; PackageVersion: revJ, 2009; PackageReference: T1033+1; PackageDescription: 10-Pin Plastic Very Very Thin Dual Flatpack No Leads, Exposed Pad, 3 x 3 x 0.8 mm Body, TDFN-EP, Pb-Free; Code_JEDEC: MO-229-WEED-3; ComponentLink1Description: Manufacturer URL; ComponentLink1URL: http://www.maxim-ic.com; ComponentLink2Description: Datasheet; ComponentLink2URL: http://datasheets.maxim-ic.com/en/ds/MAX16023-MAX16024.pdf; ComponentLink3Description: Package Specification; ComponentLink3URL: http://pdfserv.maxim-ic.com/package_dwgs/21-0137.PDF
footprint T1033+1_V (SON, 10-Leads, Body 3x3mm, Pitch 0.5mm, Thermal Pad 2.35x1.58mm, Maxim Recommended)
pins: 1 ~{CE}IN (in), 2 VCC (power), 3 BATT (power), 4 ~{MR} (in), 5 SET (in), 6 BATT ON (oc), 7 GND (power), 8 ~{RESET} (oc), 9 OUT (power), 10 ~{CE}OUT (oc), 11 EP (power)

## MAX16024PTBV+T
designator U?
Battery-Backup Circuit with Regulated Output Voltage, Open Drain output, 1.2V; 1.8V, 2.5V, 3.0V, 3.3V output, 10-Pin TDFN-EP, -40°C to +85°C, Pb-Free, Tape and Reel; DatasheetVersion: Rev 0, Aug-2008; PackageVersion: revJ, 2009; PackageReference: T1033+1; PackageDescription: 10-Pin Plastic Very Very Thin Dual Flatpack No Leads, Exposed Pad, 3 x 3 x 0.8 mm Body, TDFN-EP, Pb-Free; Code_JEDEC: MO-229-WEED-3; ComponentLink1Description: Manufacturer URL; ComponentLink1URL: http://www.maxim-ic.com; ComponentLink2Description: Datasheet; ComponentLink2URL: http://datasheets.maxim-ic.com/en/ds/MAX16023-MAX16024.pdf; ComponentLink3Description: Package Specification; ComponentLink3URL: http://pdfserv.maxim-ic.com/package_dwgs/21-0137.PDF
footprint T1033+1_V (SON, 10-Leads, Body 3x3mm, Pitch 0.5mm, Thermal Pad 2.35x1.58mm, Maxim Recommended)
pins: 1 ~{CE}IN (in), 2 VCC (power), 3 BATT (power), 4 ~{MR} (in), 5 SET (in), 6 BATT ON (oc), 7 GND (power), 8 ~{RESET} (oc), 9 OUT (power), 10 ~{CE}OUT (oc), 11 EP (power)

## MAX16024PTBW12+T
designator U?
Battery-Backup Circuit with Regulated Output Voltage, Open Drain output, 1.2V; 1.8V, 2.5V, 3.0V, 3.3V output, 10-Pin TDFN-EP, -40°C to +85°C, Pb-Free, Tape and Reel; DatasheetVersion: Rev 0, Aug-2008; PackageVersion: revJ, 2009; PackageReference: T1033+1; PackageDescription: 10-Pin Plastic Very Very Thin Dual Flatpack No Leads, Exposed Pad, 3 x 3 x 0.8 mm Body, TDFN-EP, Pb-Free; Code_JEDEC: MO-229-WEED-3; ComponentLink1Description: Manufacturer URL; ComponentLink1URL: http://www.maxim-ic.com; ComponentLink2Description: Datasheet; ComponentLink2URL: http://datasheets.maxim-ic.com/en/ds/MAX16023-MAX16024.pdf; ComponentLink3Description: Package Specification; ComponentLink3URL: http://pdfserv.maxim-ic.com/package_dwgs/21-0137.PDF
footprint T1033+1_V (SON, 10-Leads, Body 3x3mm, Pitch 0.5mm, Thermal Pad 2.35x1.58mm, Maxim Recommended)
pins: 1 ~{CE}IN (in), 2 VCC (power), 3 BATT (power), 4 ~{MR} (in), 5 SET (in), 6 BATT ON (oc), 7 GND (power), 8 ~{RESET} (oc), 9 OUT (power), 10 ~{CE}OUT (oc), 11 EP (power)

## MAX16024PTBW+T
designator U?
Battery-Backup Circuit with Regulated Output Voltage, Open Drain output, 1.2V; 1.8V, 2.5V, 3.0V, 3.3V output, 10-Pin TDFN-EP, -40°C to +85°C, Pb-Free, Tape and Reel; DatasheetVersion: Rev 0, Aug-2008; PackageVersion: revJ, 2009; PackageReference: T1033+1; PackageDescription: 10-Pin Plastic Very Very Thin Dual Flatpack No Leads, Exposed Pad, 3 x 3 x 0.8 mm Body, TDFN-EP, Pb-Free; Code_JEDEC: MO-229-WEED-3; ComponentLink1Description: Manufacturer URL; ComponentLink1URL: http://www.maxim-ic.com; ComponentLink2Description: Datasheet; ComponentLink2URL: http://datasheets.maxim-ic.com/en/ds/MAX16023-MAX16024.pdf; ComponentLink3Description: Package Specification; ComponentLink3URL: http://pdfserv.maxim-ic.com/package_dwgs/21-0137.PDF
footprint T1033+1_V (SON, 10-Leads, Body 3x3mm, Pitch 0.5mm, Thermal Pad 2.35x1.58mm, Maxim Recommended)
pins: 1 ~{CE}IN (in), 2 VCC (power), 3 BATT (power), 4 ~{MR} (in), 5 SET (in), 6 BATT ON (oc), 7 GND (power), 8 ~{RESET} (oc), 9 OUT (power), 10 ~{CE}OUT (oc), 11 EP (power)

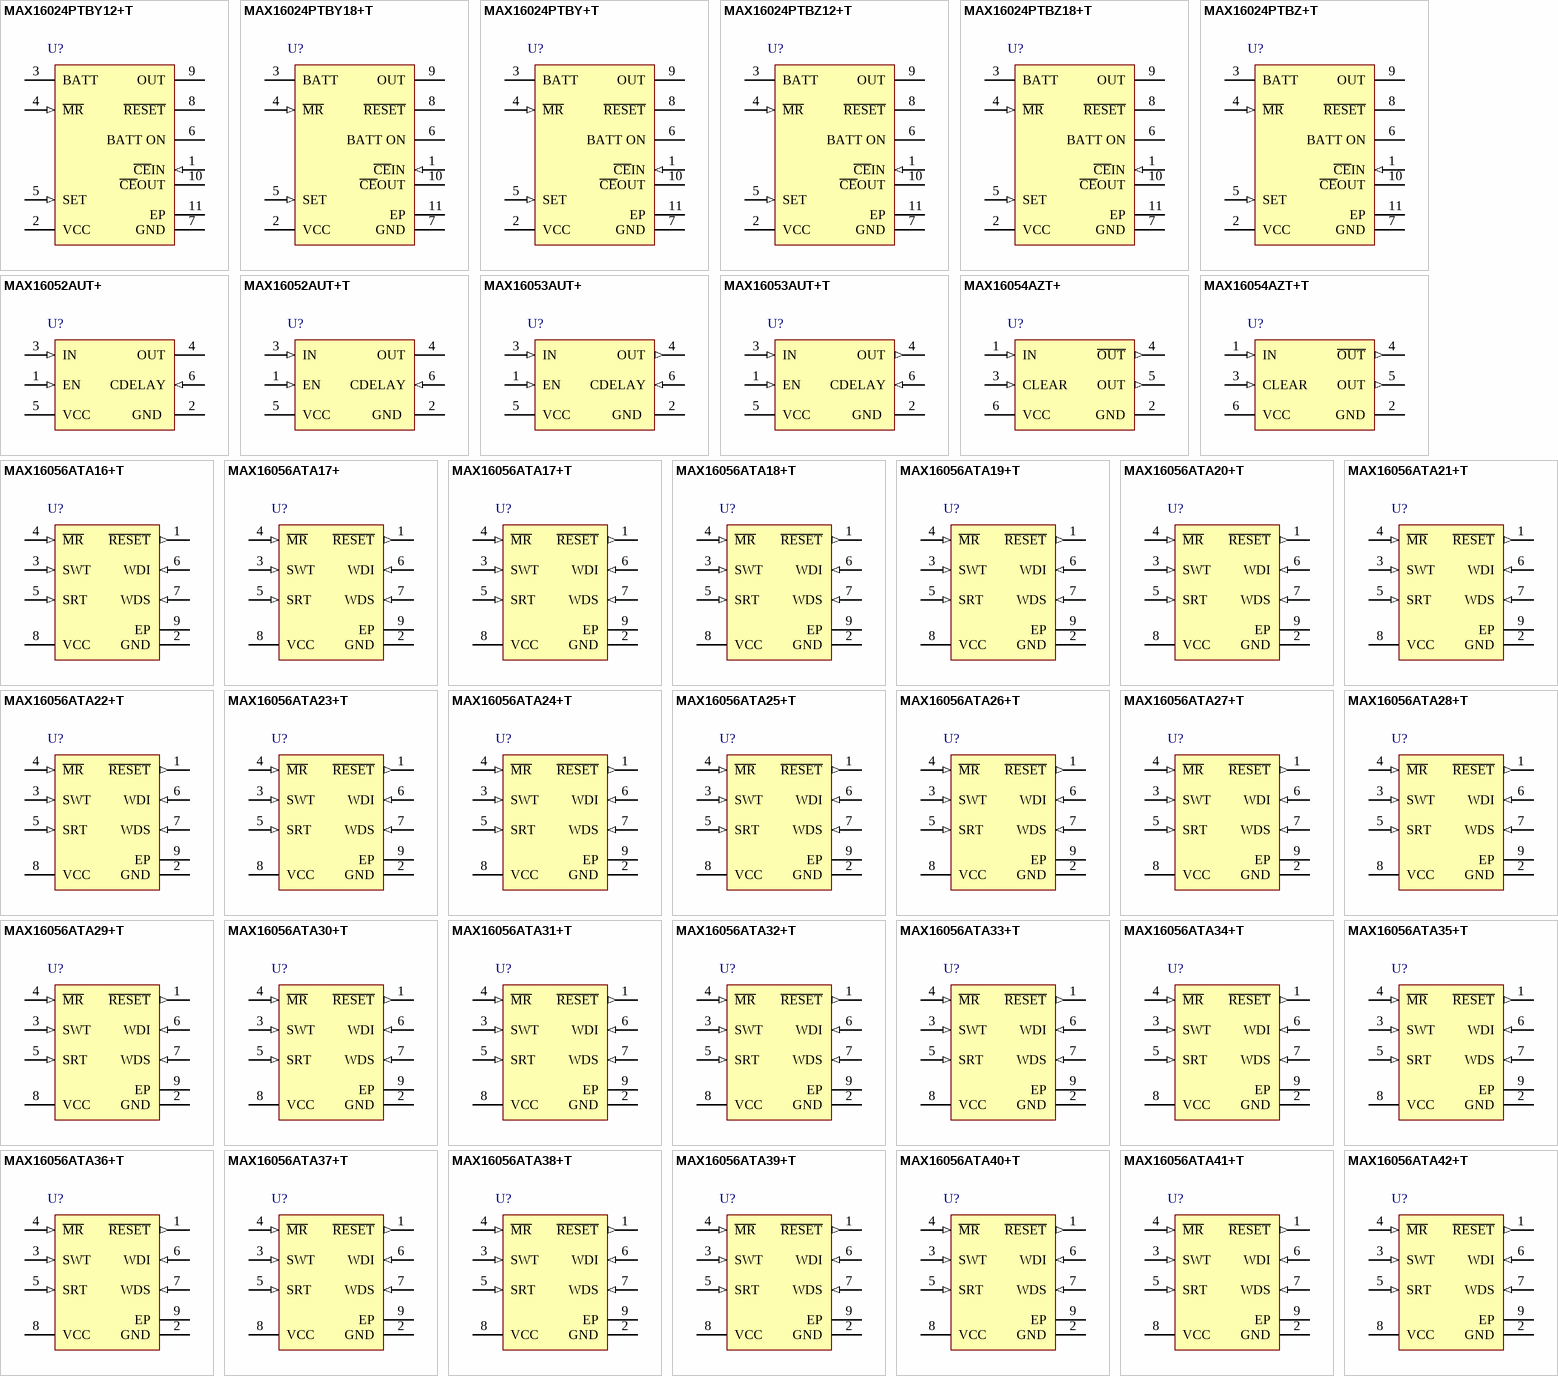
[diagram p8: symbols MAX16024PTBY12+T to MAX16056ATA42+T]

## MAX16024PTBY12+T
designator U?
Battery-Backup Circuit with Regulated Output Voltage, Open Drain output, 1.2V; 1.8V, 2.5V, 3.0V, 3.3V output, 10-Pin TDFN-EP, -40°C to +85°C, Pb-Free, Tape and Reel; DatasheetVersion: Rev 0, Aug-2008; PackageVersion: revJ, 2009; PackageReference: T1033+1; PackageDescription: 10-Pin Plastic Very Very Thin Dual Flatpack No Leads, Exposed Pad, 3 x 3 x 0.8 mm Body, TDFN-EP, Pb-Free; Code_JEDEC: MO-229-WEED-3; ComponentLink1Description: Manufacturer URL; ComponentLink1URL: http://www.maxim-ic.com; ComponentLink2Description: Datasheet; ComponentLink2URL: http://datasheets.maxim-ic.com/en/ds/MAX16023-MAX16024.pdf; ComponentLink3Description: Package Specification; ComponentLink3URL: http://pdfserv.maxim-ic.com/package_dwgs/21-0137.PDF
footprint T1033+1_V (SON, 10-Leads, Body 3x3mm, Pitch 0.5mm, Thermal Pad 2.35x1.58mm, Maxim Recommended)
pins: 1 ~{CE}IN (in), 2 VCC (power), 3 BATT (power), 4 ~{MR} (in), 5 SET (in), 6 BATT ON (oc), 7 GND (power), 8 ~{RESET} (oc), 9 OUT (power), 10 ~{CE}OUT (oc), 11 EP (power)

## MAX16024PTBY18+T
designator U?
Battery-Backup Circuit with Regulated Output Voltage, Open Drain output, 1.2V; 1.8V, 2.5V, 3.0V, 3.3V output, 10-Pin TDFN-EP, -40°C to +85°C, Pb-Free, Tape and Reel; DatasheetVersion: Rev 0, Aug-2008; PackageVersion: revJ, 2009; PackageReference: T1033+1; PackageDescription: 10-Pin Plastic Very Very Thin Dual Flatpack No Leads, Exposed Pad, 3 x 3 x 0.8 mm Body, TDFN-EP, Pb-Free; Code_JEDEC: MO-229-WEED-3; ComponentLink1Description: Manufacturer URL; ComponentLink1URL: http://www.maxim-ic.com; ComponentLink2Description: Datasheet; ComponentLink2URL: http://datasheets.maxim-ic.com/en/ds/MAX16023-MAX16024.pdf; ComponentLink3Description: Package Specification; ComponentLink3URL: http://pdfserv.maxim-ic.com/package_dwgs/21-0137.PDF
footprint T1033+1_V (SON, 10-Leads, Body 3x3mm, Pitch 0.5mm, Thermal Pad 2.35x1.58mm, Maxim Recommended)
pins: 1 ~{CE}IN (in), 2 VCC (power), 3 BATT (power), 4 ~{MR} (in), 5 SET (in), 6 BATT ON (oc), 7 GND (power), 8 ~{RESET} (oc), 9 OUT (power), 10 ~{CE}OUT (oc), 11 EP (power)

## MAX16024PTBY+T
designator U?
Battery-Backup Circuit with Regulated Output Voltage, Open Drain output, 1.2V; 1.8V, 2.5V, 3.0V, 3.3V output, 10-Pin TDFN-EP, -40°C to +85°C, Pb-Free, Tape and Reel; DatasheetVersion: Rev 0, Aug-2008; PackageVersion: revJ, 2009; PackageReference: T1033+1; PackageDescription: 10-Pin Plastic Very Very Thin Dual Flatpack No Leads, Exposed Pad, 3 x 3 x 0.8 mm Body, TDFN-EP, Pb-Free; Code_JEDEC: MO-229-WEED-3; ComponentLink1Description: Manufacturer URL; ComponentLink1URL: http://www.maxim-ic.com; ComponentLink2Description: Datasheet; ComponentLink2URL: http://datasheets.maxim-ic.com/en/ds/MAX16023-MAX16024.pdf; ComponentLink3Description: Package Specification; ComponentLink3URL: http://pdfserv.maxim-ic.com/package_dwgs/21-0137.PDF
footprint T1033+1_V (SON, 10-Leads, Body 3x3mm, Pitch 0.5mm, Thermal Pad 2.35x1.58mm, Maxim Recommended)
pins: 1 ~{CE}IN (in), 2 VCC (power), 3 BATT (power), 4 ~{MR} (in), 5 SET (in), 6 BATT ON (oc), 7 GND (power), 8 ~{RESET} (oc), 9 OUT (power), 10 ~{CE}OUT (oc), 11 EP (power)

## MAX16024PTBZ12+T
designator U?
Battery-Backup Circuit with Regulated Output Voltage, Open Drain output, 1.2V; 1.8V, 2.5V, 3.0V, 3.3V output, 10-Pin TDFN-EP, -40°C to +85°C, Pb-Free, Tape and Reel; DatasheetVersion: Rev 0, Aug-2008; PackageVersion: revJ, 2009; PackageReference: T1033+1; PackageDescription: 10-Pin Plastic Very Very Thin Dual Flatpack No Leads, Exposed Pad, 3 x 3 x 0.8 mm Body, TDFN-EP, Pb-Free; Code_JEDEC: MO-229-WEED-3; ComponentLink1Description: Manufacturer URL; ComponentLink1URL: http://www.maxim-ic.com; ComponentLink2Description: Datasheet; ComponentLink2URL: http://datasheets.maxim-ic.com/en/ds/MAX16023-MAX16024.pdf; ComponentLink3Description: Package Specification; ComponentLink3URL: http://pdfserv.maxim-ic.com/package_dwgs/21-0137.PDF
footprint T1033+1_V (SON, 10-Leads, Body 3x3mm, Pitch 0.5mm, Thermal Pad 2.35x1.58mm, Maxim Recommended)
pins: 1 ~{CE}IN (in), 2 VCC (power), 3 BATT (power), 4 ~{MR} (in), 5 SET (in), 6 BATT ON (oc), 7 GND (power), 8 ~{RESET} (oc), 9 OUT (power), 10 ~{CE}OUT (oc), 11 EP (power)

## MAX16024PTBZ18+T
designator U?
Battery-Backup Circuit with Regulated Output Voltage, Open Drain output, 1.2V; 1.8V, 2.5V, 3.0V, 3.3V output, 10-Pin TDFN-EP, -40°C to +85°C, Pb-Free, Tape and Reel; DatasheetVersion: Rev 0, Aug-2008; PackageVersion: revJ, 2009; PackageReference: T1033+1; PackageDescription: 10-Pin Plastic Very Very Thin Dual Flatpack No Leads, Exposed Pad, 3 x 3 x 0.8 mm Body, TDFN-EP, Pb-Free; Code_JEDEC: MO-229-WEED-3; ComponentLink1Description: Manufacturer URL; ComponentLink1URL: http://www.maxim-ic.com; ComponentLink2Description: Datasheet; ComponentLink2URL: http://datasheets.maxim-ic.com/en/ds/MAX16023-MAX16024.pdf; ComponentLink3Description: Package Specification; ComponentLink3URL: http://pdfserv.maxim-ic.com/package_dwgs/21-0137.PDF
footprint T1033+1_V (SON, 10-Leads, Body 3x3mm, Pitch 0.5mm, Thermal Pad 2.35x1.58mm, Maxim Recommended)
pins: 1 ~{CE}IN (in), 2 VCC (power), 3 BATT (power), 4 ~{MR} (in), 5 SET (in), 6 BATT ON (oc), 7 GND (power), 8 ~{RESET} (oc), 9 OUT (power), 10 ~{CE}OUT (oc), 11 EP (power)